# Altium schematic symbol library SNC8600BMT03 元件库.SCHLIB: 1 symbol
Pins are listed as number, name and electrical type; pins without a type are passive.

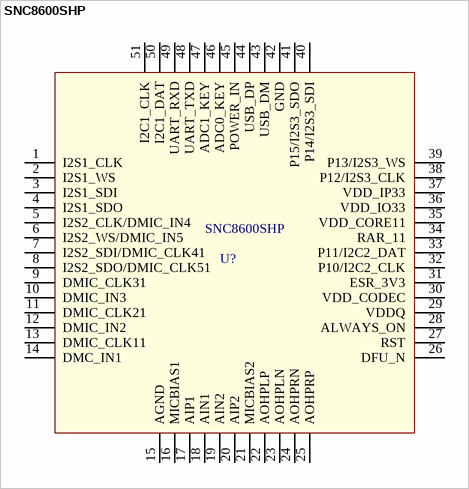
[diagram p0: symbol SNC8600SHP]

## SNC8600SHP
designator U?
footprint PCBComponent_1
pins: 1 I2S1_CLK, 2 I2S1_WS, 3 I2S1_SDI, 4 I2S1_SDO, 5 I2S2_CLK/DMIC_IN4, 6 I2S2_WS/DMIC_IN5, 7 I2S2_SDI/DMIC_CLK41, 8 I2S2_SDO/DMIC_CLK51, 9 DMIC_CLK31, 10 DMIC_IN3, 11 DMIC_CLK21, 12 DMIC_IN2, 13 DMIC_CLK11, 14 DMC_IN1, 15 AGND, 16 MICBIAS1, 17 AIP1, 18 AIN1, 19 AIN2, 20 AIP2, 21 MICBIAS2, 22 AOHPLP, 23 AOHPLN, 24 AOHPRN, 25 AOHPRP, 26 DFU_N, 27 RST, 28 ALWAYS_ON, 29 VDDQ, 30 VDD_CODEC, 31 ESR_3V3, 32 P10/I2C2_CLK, 33 P11/I2C2_DAT, 34 RAR_11, 35 VDD_CORE11, 36 VDD_IO33, 37 VDD_IP33, 38 P12/I2S3_CLK, 39 P13/I2S3_WS, 40 P14/I2S3_SDI, 41 P15/I2S3_SDO, 42 GND, 43 USB_DM, 44 USB_DP, 45 POWER_IN, 46 ADC0_KEY, 47 ADC1_KEY, 48 UART_TXD, 49 UART_RXD, 50 I2C1_DAT, 51 I2C1_CLK